# Altium footprint library Yunus_Pcb.PcbLib: 44 footprints (part 1 of 3)
Each footprint in its own frame and in the unit in brackets; x right, y up, seen from the top. Pads: shape width x height; smd on the part's side, far side on the other; paste and mask are expansions set on the pad; w line width, h text height; cw(c..) or ccw(c..) is an arc to the next point about the centre after c.
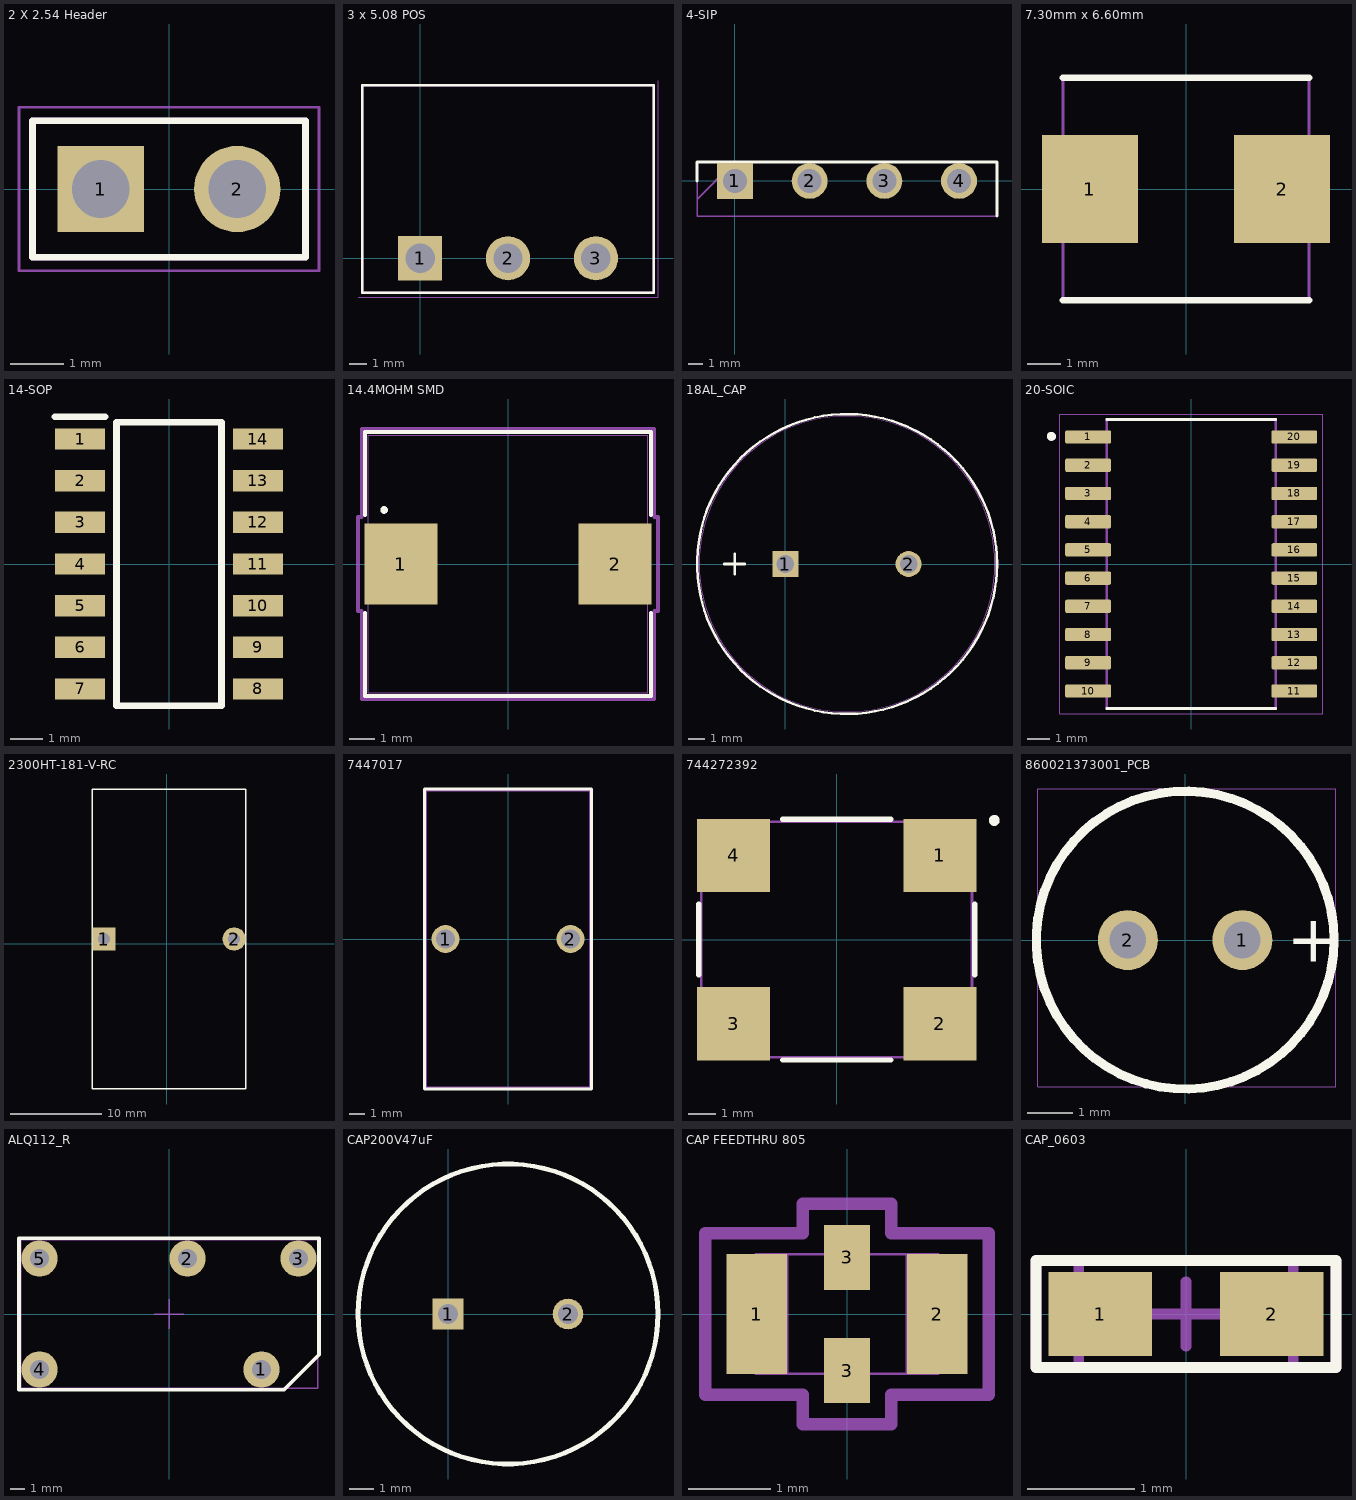
[diagram p0: the footprints below, top view; thin cyan lines are the x and y axes]

## 2 X 2.54 Header [mm]
pads (2):
  rect 1.605x1.605 / inner round 1.605 / far side rect 1.605x1.605 hole 1.07: 1(-1.27,0)
  round 1.605 hole 1.07: 2(1.27,0)
Top Overlay:
  lines w0.127: -2.54,-1.27 2.54,-1.27 2.54,1.27 -2.54,1.27 -2.54,-1.27
Top Designator:
  text "'.Designator'" at -5.146,-0.138 h1.52
Mechanical 13:
  lines w0.127: -2.54,-1.27 2.54,-1.27 2.54,1.27 -2.54,1.27 -2.54,-1.27
Mechanical 15:
  lines w0.05: -2.79,-1.52 2.79,-1.52 2.79,1.52 -2.79,1.52 -2.79,-1.52
3D body "step_temp.STEP": height 8.74, standoff -3, extent -2.54,-1.27 2.54,1.27

## 3 x 5.08 POS [mm]
pads (3):
  rect 2.55x2.55 / inner round 2.55 / far side rect 2.55x2.55 hole 1.7: 1(0,0)
  round 2.55 hole 1.7: 2(5.08,0) 3(10.16,0)
Top Overlay:
  lines w0.127: -3.34,-2 13.5,-2 13.5,10 -3.34,10 -3.34,-2
Top Designator:
  text "'.Designator'" at -1.25,-0.317 h0.7
Mechanical 13:
  lines w0.127: -3.34,-2 13.5,-2 13.5,10 -3.34,10 -3.34,-2
Mechanical 15:
  lines w0.05: -3.59,-2.25 13.75,-2.25 13.75,10.25
3D body "step_temp.STEP": height 8.5, standoff -4, extent -3.213,-2.032 13.627,9.968

## 4-SIP [mm]
pads (4):
  rect 2.445x2.445 / inner round 2.445 / far side rect 2.445x2.445 hole 1.63: 1(0,0)
  round 2.445 hole 1.63: 2(5.08,0) 3(10.16,0) 4(15.24,0)
Top Overlay:
  lines w0.2: -2.58,0 -2.58,1.3 17.82,1.3 17.82,-2.4
Mechanical 15:
  lines w0.1: -2.58,-1.24 -0.04,1.3 ; -2.58,-2.4 17.82,-2.4 17.82,1.3 -2.58,1.3 -2.58,-2.4
3D body "GBUA10M-BP.stp": height 13.1, standoff -21, extent -2.38,-2.43 17.62,1.27

## 7.30mm x 6.60mm [mm]
pads (2):
  rect 2.85x3.2 smd: 1(-2.85,0) 2(2.85,0)
Top Overlay:
  lines w0.2: -3.65,-3.3 3.65,-3.3 ; -3.65,3.3 3.65,3.3
Mechanical 15:
  lines w0.1: -3.65,-3.3 -3.65,3.3 3.65,3.3 3.65,-3.3 -3.65,-3.3
3D body "SRP7028A-5R6M.stp": height 3, standoff 0, extent -3.65,-3.3 3.65,3.3

## 14-SOP [mm]
pads (14):
  rect 1.525x0.65 smd: 1(-2.712,3.81) 2(-2.712,2.54) 3(-2.712,1.27) 4(-2.712,0) 5(-2.712,-1.27) 6(-2.712,-2.54) 7(-2.712,-3.81) 8(2.712,-3.81) 9(2.712,-2.54) 10(2.712,-1.27) 11(2.712,0) 12(2.712,1.27) 13(2.712,2.54) 14(2.712,3.81)
Top Overlay:
  lines w0.2: -3.475,4.485 -1.95,4.485 ; -1.6,-4.325 -1.6,4.325 1.6,4.325 1.6,-4.325 -1.6,-4.325
3D body "UCC27714DR.stp": height 1.75, standoff 0, extent -3.013,-4.325 3.013,4.325

## 14.4MOHM SMD [mil]
pads (2):
  rect 115x128 smd paste+0 mask+0: 1(-168.5,0) 2(168.5,0)
Top Overlay:
  circle w6: c-195,85 r3
  lines w6: -225,-77.1 -225,-207.5 225,-207.5 225,-77.1 ; -225,77.1 -225,207.5 225,207.5 225,77.1
Mechanical 13:
  circle w0: c-200,0 r3
  lines w1: -220,-202.5 220,-202.5 220,202.5 -220,202.5 -220,-202.5
Mechanical 15:
  lines w6: -236,-74 -236,74 -230,74 -230,212.5 230,212.5 230,74 236,74 236,-74 230,-74 230,-212.5 -230,-212.5 -230,-74 -236,-74
3D body "IND_IHLP-4040DZ_VIS.step": height 160, standoff 0, extent -220,-202.48 220,202.48

## 18AL_CAP [mil]
pads (2):
  rect 62x62 / inner round 60 / far side rect 62x62 hole 42 paste-31 mask+0: 1(0,0)
  round 62 / inner round 60 / far side round 62 hole 42 paste-31 mask+0: 2(295,0)
Top Overlay:
  circle w6: c147.5,0 r359.5
  lines w6: -147,0 -97,0 ; -122,-25 -122,25
Mechanical 13:
  circle w0: c147.5,0 r354.5
  lines w1: -147,0 -97,0 ; -122,-25 -122,25
3D body "U1-OO_NCH.step": height 1230.79, standoff -195.98, extent -207.01,-353.8 503.41,353.8

## 20-SOIC [mm]
pads (20):
  rrect25% 2.06x0.6 smd: 1(-4.64,5.715) 2(-4.64,4.445) 3(-4.64,3.175) 4(-4.64,1.905) 5(-4.64,0.635) 6(-4.64,-0.635) 7(-4.64,-1.905) 8(-4.64,-3.175) 9(-4.64,-4.445) 10(-4.64,-5.715) 11(4.64,-5.715) 12(4.64,-4.445) 13(4.64,-3.175) 14(4.64,-1.905) 15(4.64,-0.635) 16(4.64,0.635) 17(4.64,1.905) 18(4.64,3.175) 19(4.64,4.445) 20(4.64,5.715)
Top Overlay:
  circle w0.2: c-6.29,5.743 r0.1
  lines w0.127: -3.8,-6.5 3.8,-6.5 ; -3.8,6.5 3.8,6.5
Mechanical 13:
  circle w0.2: c-6.29,5.743 r0.1
  lines w0.127: -3.8,-6.5 3.8,-6.5 3.8,6.5 -3.8,6.5 -3.8,-6.5
Mechanical 15:
  lines w0.05: -5.92,-6.75 5.92,-6.75 5.92,6.75 -5.92,6.75 -5.92,-6.75
3D body "DW20.step": height 2.64, standoff 0, extent -5.321,-6.502 5.321,6.502

## 2300HT-181-V-RC [mil]
pads (2):
  rect 100x100 hole 52 paste-36 mask+0: 1(-270,20)
  round 100 hole 52 paste-36 mask+0: 2(290,20)
Top Overlay:
  lines w6: -320,-625 -320,665 340,665 340,-625 -320,-625
3D body "2300HT-181-V-RC.STEP": height 1280, standoff -500, extent -315,-635.63 335,675.63

## 7447017 [mm]
pads (2):
  round 1.8 hole 1.2: 1(-4,0) 2(4,0)
Top Overlay:
  lines w0.2: -5.35,-9.6 -5.35,9.6 5.35,9.6 5.35,-9.6 -5.35,-9.6
Top Designator:
  text "'.Designator'" at -5.146,-0.138 h1.52
Mechanical 13:
  lines w0.1: -5.25,-9.5 -5.25,9.5 5.25,9.5 5.25,-9.5 -5.25,-9.5
3D body "7447017 (rev1).stp": height 16.33, standoff -15.69, extent -4.554,-8.779 4.445,8.636

## 744272392 [mm]
pads (4):
  rect 2.7x2.7 smd paste+0 mask+0.102: 1(3.81,3.11) 2(3.81,-3.11) 3(-3.81,-3.11) 4(-3.81,3.11)
Top Overlay:
  circle w0.2: c5.82,4.4 r0.1
  lines w0.2: -5.1,-1.3 -5.1,1.3 ; -2,-4.45 2,-4.45 ; -2,4.45 2,4.45 ; 5.1,-1.3 5.1,1.3
Top Designator:
  text "'.Designator'" at -5.146,-0.138 h1.52
Mechanical 13:
  lines w0.1: -5,-4.35 5,-4.35 5,4.35 -5,4.35 -5,-4.35
3D body "744272392+(rev1).stp": height 5.7, standoff -0.3, extent -5,-4.35 5,4.35

## 860021373001_PCB [mm]
pads (2):
  round 1.308 hole 0.8 mask+0.102: 1(1.25,0) 2(-1.25,0)
Top Overlay:
  circle w0.2: c0,0 r3.25
  text "+" at 2.222,-0.473 h1.02
Mechanical 1:
  lines w0.025: -3.211,-3.203 3.289,-3.203 3.289,3.297 -3.211,3.297 -3.211,-3.203
Mechanical 13:
  text "+" at 2.222,-0.473 h1.02
3D body: height 11, standoff 0, extent -3.25,-3.25 3.25,3.25

## ALQ112_R [mm]
pads (5):
  round 2.5 hole 1.3 mask+0.05: 1(6.35,-3.81) 2(1.27,3.81) 3(8.89,3.81) 4(-8.89,-3.81) 5(-8.89,3.81)
Top Overlay:
  lines w0.25: -10.3,-5.2 -10.3,5.2 10.3,5.2 10.3,-2.8 7.9,-5.2 -10.3,-5.2
Top Component Center:
  lines w0.1: -1,0 1,0 ; 0,-1 0,1 ; -10.19,-5.09 -10.19,5.11 10.21,5.11 10.21,-5.09 -10.19,-5.09
Top Designator:
  lines w0.1: -10.19,-5.09 -10.19,5.11 10.21,5.11 10.21,-5.09 -10.19,-5.09
  text "'.Designator'" at -5.146,-0.138 h1.52
3D body: height 15.6, standoff 0.4, extent -10,-4.98 10,5.02
3D body: height 15.6, standoff 0.4, extent 8.01,-3.99 9.01,-2.99
3D body: height 0.45, standoff -3.75, extent -9.288,3.411 -8.492,4.209
3D body: height 0.45, standoff -3.75, extent -9.288,-4.209 -8.492,-3.411
3D body: height 0.2, standoff -4, extent 0.87,3.66 1.67,3.96
3D body: height 0.2, standoff -4, extent 8.49,3.66 9.29,3.96
3D body: height 0.2, standoff -4, extent 5.95,-3.96 6.75,-3.66

## CAP200V47uF [mm]
pads (2):
  rect 1.275x1.275 / inner round 1.275 / far side rect 1.275x1.275 hole 0.85: 1(0,0)
  round 1.275 hole 0.85: 2(5,0)
Top Overlay:
  circle w0.2: c2.5,0 r6.25
Mechanical 15:
  circle w0.1: c2.5,0 r6.25
3D body "REH1218470M200K.stp": height 20, standoff -10, extent -4,-6.5 9,6.5

## CAP FEEDTHRU 805 [mil]
pads (4):
  rect 29x57 smd paste+0 mask+0: 1(-43,0) 2(43,0)
  rect 22x31 smd paste+0 mask+0: 3(0,-27) 3(0,27)
Top Designator:
  text "'.Designator'" at -49.21,-12.47 h27.56
Mechanical 13:
  lines w1: -43.5,-28.5 -43.5,28.5 ; -43.5,-28.5 43.5,-28.5 ; -43.5,-28.5 -28.5,-28.5 -28.5,28.5 -43.5,28.5 ; -43.5,-28.5 -43.5,28.5 ; -43.5,28.5 43.5,28.5 ; 43.5,-28.5 43.5,28.5 ; 43.5,-28.5 43.5,28.5 ; 43.5,-28.5 28.5,-28.5 28.5,28.5 43.5,28.5
Mechanical 15:
  lines w6: -67.5,-38.5 -21,-38.5 -21,-52.5 21,-52.5 21,-38.5 67.5,-38.5 67.5,38.5 21,38.5 21,52.5 -21,52.5 -21,38.5 -67.5,38.5 -67.5,-38.5
3D body "FEEDTHRU_0805_KAV.step": height 45, standoff 0, extent -43.5,-28.5 43.5,28.5

## CAP_0603 [mil]
pads (2):
  rect 38x31 smd mask+1.97: 1(-31.5,0) 2(31.5,0)
Top Overlay:
  lines w3.94: -55.12,-19.68 -55.12,19.68 55.12,19.68 55.12,-19.68 -55.12,-19.68
Top 3D Body:
  lines w3.94: -39.37,-19.68 39.37,-19.68 39.37,19.68 -39.37,19.68 -39.37,-19.68
Top Component Center:
  lines w3.94: -11.81,0 11.81,0 ; 0,-11.81 0,11.81 ; -55.12,-19.68 -55.12,19.68 55.12,19.68 55.12,-19.68 -55.12,-19.68
Top Designator:
  lines w3.94: -55.12,-19.68 -55.12,19.68 55.12,19.68 55.12,-19.68 -55.12,-19.68
  text ".Designator" at -39.37,-9.19 h19.68
3D body "CAPC0603.STEP": height 31.5, standoff 0, extent -41.35,-22.21 41.36,18.29